# Altium footprint library 1812WBT-3.PcbLib: 1 footprints
Each footprint in its own frame and in the unit in brackets; x right, y up, seen from the top. Pads: shape width x height; smd on the part's side, far side on the other; paste and mask are expansions set on the pad; w line width, h text height; cw(c..) or ccw(c..) is an arc to the next point about the centre after c.
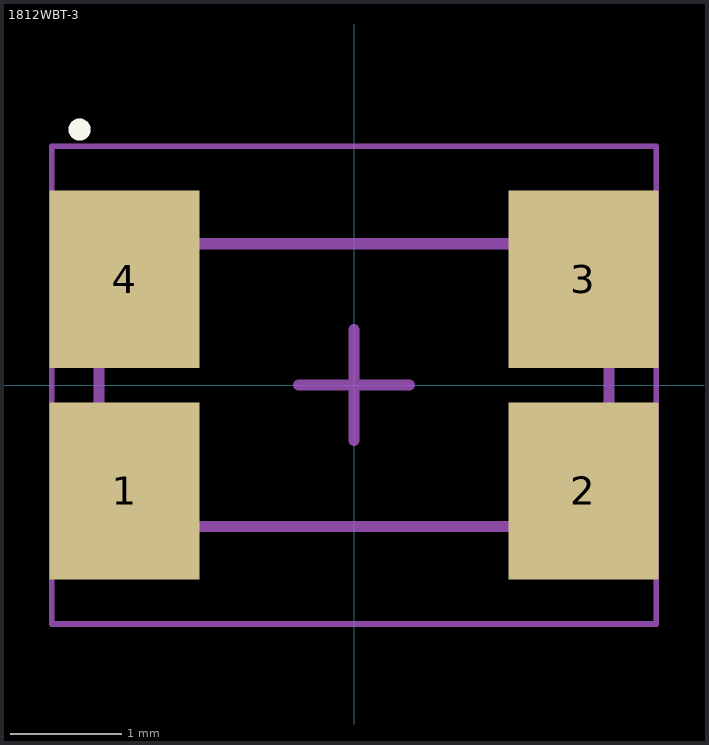
[diagram p0: the footprint, top view; thin cyan lines are the x and y axes]

## 1812WBT-3 [mm] "DFN, 4-Leads, Body 2.54x4.52mm, Pitch 4.14mm, IPC Medium Density"
height 3.43
pads (4):
  rect 1.35x1.6 smd: 1(-2.07,-0.955) 2(2.07,-0.955) 3(2.07,0.955) 4(-2.07,0.955)
Top Overlay:
  circle w0.1: c-2.475,2.305 r0.05
Mechanical 13:
  lines w0.1: -2.3,-1.275 2.3,-1.275 2.3,1.275 -2.3,1.275 -2.3,-1.275
Mechanical 15:
  lines w0.05: -2.725,-2.155 2.725,-2.155 2.725,2.155 -2.725,2.155 -2.725,-2.155
  lines w0.1: -0.5,0 0.5,0 ; 0,-0.5 0,0.5
3D body: height 3.43, standoff 0, extent -2.3,-1.275 2.3,1.275